# Altium integrated library FPGA Generic.IntLib: 1651 symbols (part 9 of 20)
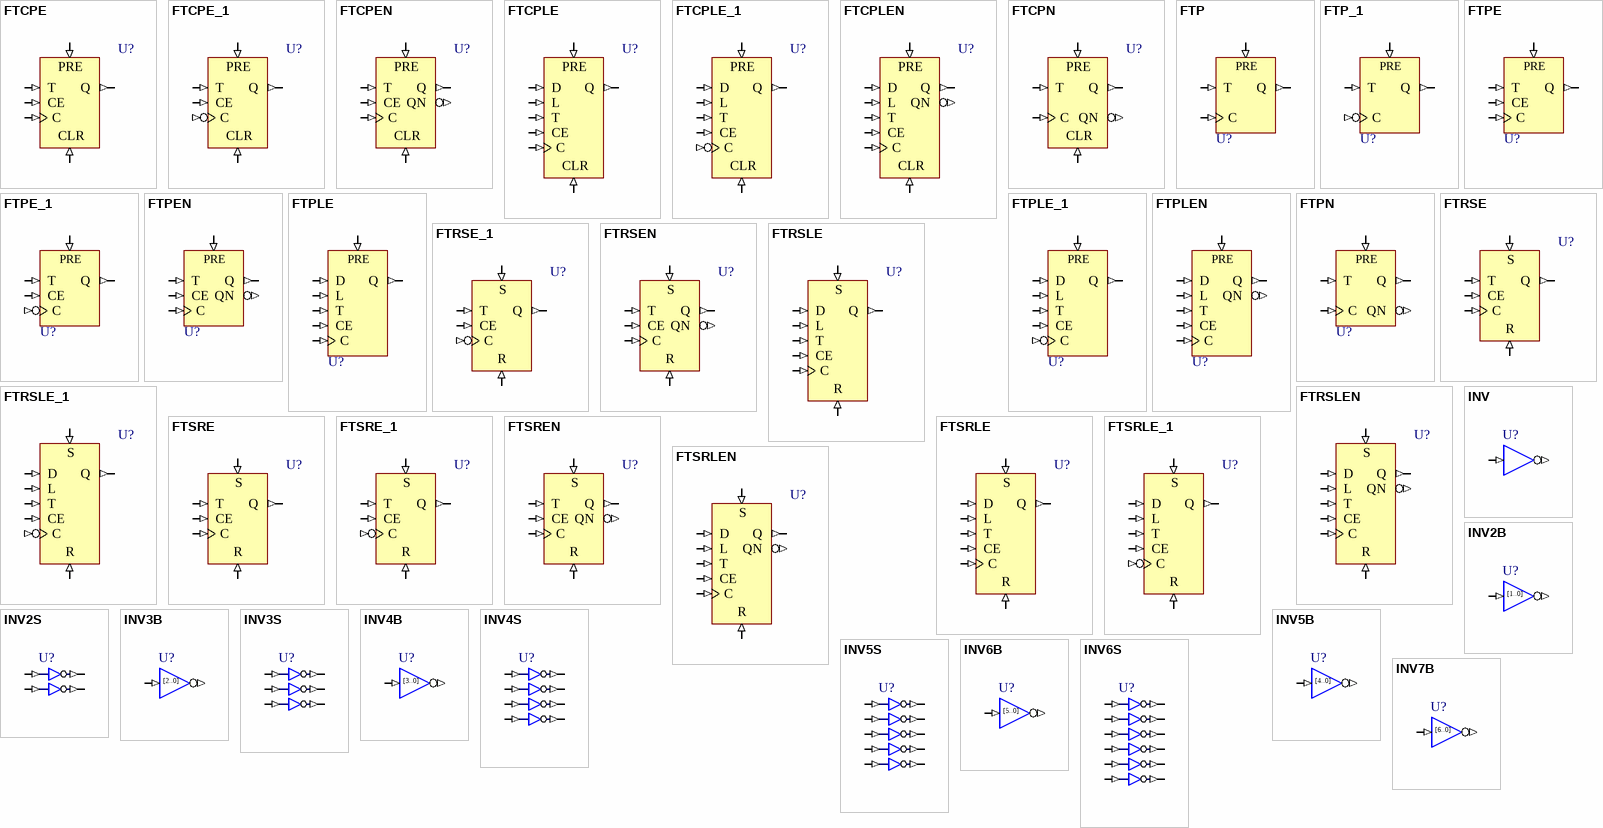
[diagram p51: symbols FTCPE to INV7B]

## INV7B
designator U?
7-Bit Inverter, Bus Version; FunctionalClass: Logic Primitive; SubClass: INV; PortSize: 7; ArchiveName: GENERIC; VHDLIB_SIM: GENERIC_LIB; Published: 29-Jan-2004; Publisher: Altium Limited; LastRevisionNo: 1.00.00; HelpURL: CR0118 FPGA Generic Library Guide.pdf#page=291; ComponentLink1URL: CR0136 FPGA Logic Primitive Resource Usage.pdf#page=72; ComponentLink1Description: Core &Resource Usage; PortStyle: Bus Version
pins: I[6..0] (in), O[6..0] (out)
text: [6..0]

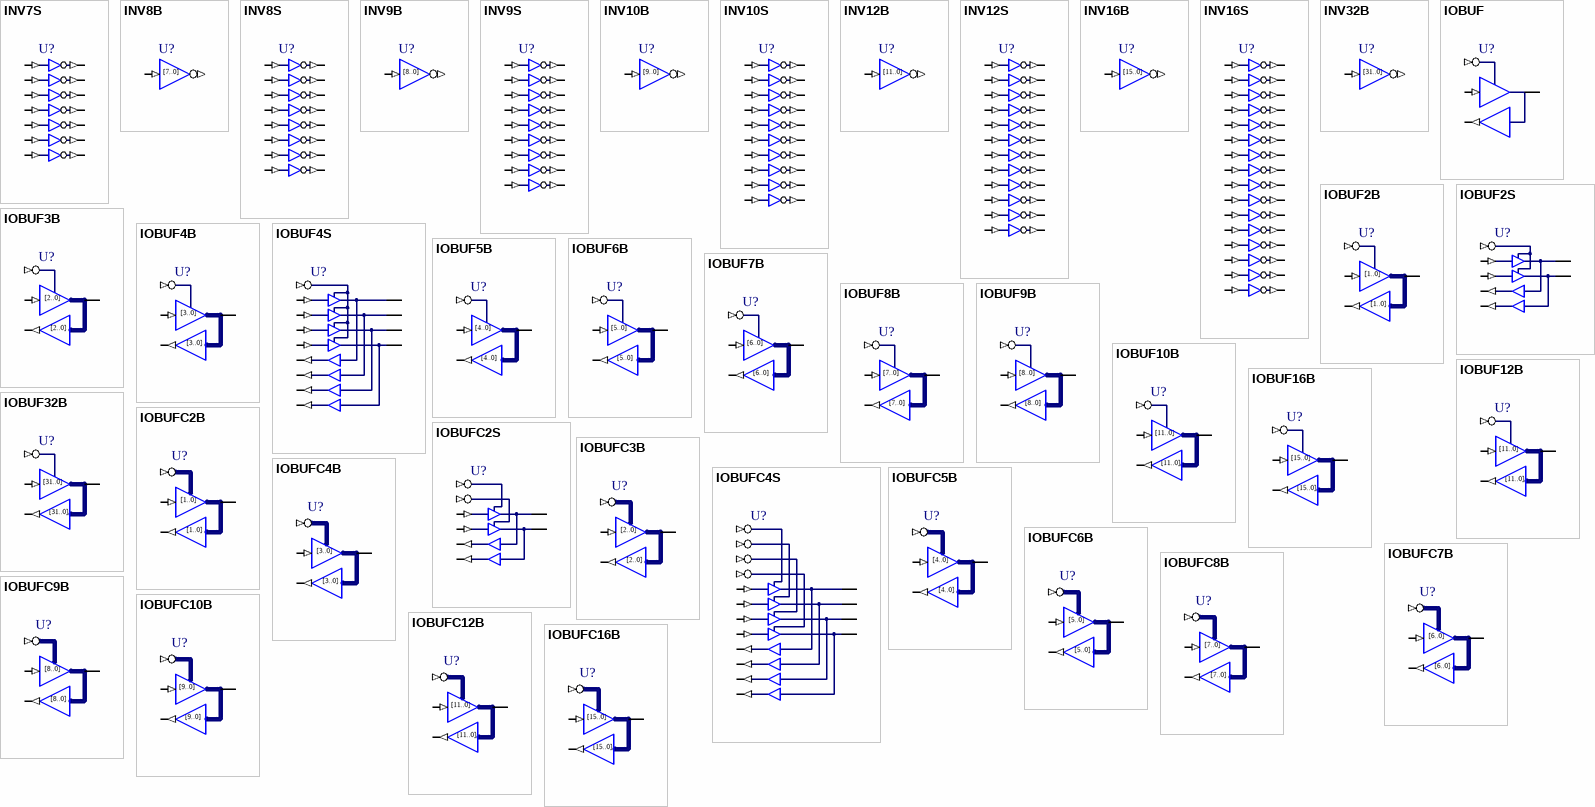
[diagram p17: symbols INV7S to IOBUFC16B]

## INV7S
designator U?
7-Bit Inverter, Single Pin Version; FunctionalClass: Logic Primitive; SubClass: INV; PortSize: 7; ArchiveName: GENERIC; VHDLIB_SIM: GENERIC_LIB; Published: 29-Jan-2004; Publisher: Altium Limited; LastRevisionNo: 1.00.00; HelpURL: CR0118 FPGA Generic Library Guide.pdf#page=291; ComponentLink1URL: CR0136 FPGA Logic Primitive Resource Usage.pdf#page=73; ComponentLink1Description: Core &Resource Usage; PortStyle: Single Pin Version
pins: I0 (in), I1 (in), I2 (in), I3 (in), I4 (in), I5 (in), I6 (in), O0 (out), O1 (out), O2 (out), O3 (out), O4 (out), O5 (out), O6 (out)

## INV8B
designator U?
8-Bit Inverter, Bus Version; XilinxEquivalent: INV8; FunctionalClass: Logic Primitive; SubClass: INV; PortSize: 8; ArchiveName: GENERIC; VHDLIB_SIM: GENERIC_LIB; Published: 29-Jan-2004; Publisher: Altium Limited; LastRevisionNo: 1.00.00; HelpURL: CR0118 FPGA Generic Library Guide.pdf#page=291; ComponentLink1URL: CR0136 FPGA Logic Primitive Resource Usage.pdf#page=74; ComponentLink1Description: Core &Resource Usage; PortStyle: Bus Version
pins: I[7..0] (in), O[7..0] (out)
text: [7..0]

## INV8S
designator U?
8-Bit Inverter, Single Pin Version; FunctionalClass: Logic Primitive; SubClass: INV; PortSize: 8; ArchiveName: GENERIC; VHDLIB_SIM: GENERIC_LIB; Published: 29-Jan-2004; Publisher: Altium Limited; LastRevisionNo: 1.00.00; HelpURL: CR0118 FPGA Generic Library Guide.pdf#page=291; ComponentLink1URL: CR0136 FPGA Logic Primitive Resource Usage.pdf#page=75; ComponentLink1Description: Core &Resource Usage; PortStyle: Single Pin Version
pins: I0 (in), I1 (in), I2 (in), I3 (in), I4 (in), I5 (in), I6 (in), I7 (in), O0 (out), O1 (out), O2 (out), O3 (out), O4 (out), O5 (out), O6 (out), O7 (out)

## INV9B
designator U?
9-Bit Inverter, Bus Version; FunctionalClass: Logic Primitive; SubClass: INV; PortSize: 9; ArchiveName: GENERIC; VHDLIB_SIM: GENERIC_LIB; Published: 29-Jan-2004; Publisher: Altium Limited; LastRevisionNo: 1.00.00; HelpURL: CR0118 FPGA Generic Library Guide.pdf#page=291; ComponentLink1URL: CR0136 FPGA Logic Primitive Resource Usage.pdf#page=76; ComponentLink1Description: Core &Resource Usage; PortStyle: Bus Version
pins: I[8..0] (in), O[8..0] (out)
text: [8..0]

## INV9S
designator U?
9-Bit Inverter, Single Pin Version; FunctionalClass: Logic Primitive; SubClass: INV; PortSize: 9; ArchiveName: GENERIC; VHDLIB_SIM: GENERIC_LIB; Published: 29-Jan-2004; Publisher: Altium Limited; LastRevisionNo: 1.00.00; HelpURL: CR0118 FPGA Generic Library Guide.pdf#page=291; ComponentLink1URL: CR0136 FPGA Logic Primitive Resource Usage.pdf#page=77; ComponentLink1Description: Core &Resource Usage; PortStyle: Single Pin Version
pins: I0 (in), I1 (in), I2 (in), I3 (in), I4 (in), I5 (in), I6 (in), I7 (in), I8 (in), O0 (out), O1 (out), O2 (out), O3 (out), O4 (out), O5 (out), O6 (out), O7 (out), O8 (out)

## INV10B
designator U?
10-Bit Inverter, Bus Version; FunctionalClass: Logic Primitive; SubClass: INV; PortSize: 10; ArchiveName: GENERIC; VHDLIB_SIM: GENERIC_LIB; Published: 29-Jan-2004; Publisher: Altium Limited; LastRevisionNo: 1.00.00; HelpURL: CR0118 FPGA Generic Library Guide.pdf#page=291; ComponentLink1URL: CR0136 FPGA Logic Primitive Resource Usage.pdf#page=78; ComponentLink1Description: Core &Resource Usage; PortStyle: Bus Version
pins: I[9..0] (in), O[9..0] (out)
text: [9..0]

## INV10S
designator U?
10-Bit Inverter, Single Pin Version; FunctionalClass: Logic Primitive; SubClass: INV; PortSize: 10; ArchiveName: GENERIC; VHDLIB_SIM: GENERIC_LIB; Published: 29-Jan-2004; Publisher: Altium Limited; LastRevisionNo: 1.00.00; HelpURL: CR0118 FPGA Generic Library Guide.pdf#page=291; ComponentLink1URL: CR0136 FPGA Logic Primitive Resource Usage.pdf#page=79; ComponentLink1Description: Core &Resource Usage; PortStyle: Single Pin Version
pins: I0 (in), I1 (in), I2 (in), I3 (in), I4 (in), I5 (in), I6 (in), I7 (in), I8 (in), I9 (in), O0 (out), O1 (out), O2 (out), O3 (out), O4 (out), O5 (out), O6 (out), O7 (out), O8 (out), O9 (out)

## INV12B
designator U?
12-Bit Inverter, Bus Version; FunctionalClass: Logic Primitive; SubClass: INV; PortSize: 12; ArchiveName: GENERIC; VHDLIB_SIM: GENERIC_LIB; Published: 29-Jan-2004; Publisher: Altium Limited; LastRevisionNo: 1.00.00; HelpURL: CR0118 FPGA Generic Library Guide.pdf#page=291; ComponentLink1URL: CR0136 FPGA Logic Primitive Resource Usage.pdf#page=80; ComponentLink1Description: Core &Resource Usage; PortStyle: Bus Version
pins: I[11..0] (in), O[11..0] (out)
text: [11..0]

## INV12S
designator U?
12-Bit Inverter, Single Pin Version; FunctionalClass: Logic Primitive; SubClass: INV; PortSize: 12; ArchiveName: GENERIC; VHDLIB_SIM: GENERIC_LIB; Published: 29-Jan-2004; Publisher: Altium Limited; LastRevisionNo: 1.00.00; HelpURL: CR0118 FPGA Generic Library Guide.pdf#page=291; ComponentLink1URL: CR0136 FPGA Logic Primitive Resource Usage.pdf#page=81; ComponentLink1Description: Core &Resource Usage; PortStyle: Single Pin Version
pins: I0 (in), I1 (in), I2 (in), I3 (in), I4 (in), I5 (in), I6 (in), I7 (in), I8 (in), I9 (in), I10 (in), I11 (in), O0 (out), O1 (out), O2 (out), O3 (out), O4 (out), O5 (out), O6 (out), O7 (out), O8 (out), O9 (out), O10 (out), O11 (out)

## INV16B
designator U?
16-Bit Inverter, Bus Version; XilinxEquivalent: INV16; FunctionalClass: Logic Primitive; SubClass: INV; PortSize: 16; ArchiveName: GENERIC; VHDLIB_SIM: GENERIC_LIB; Published: 29-Jan-2004; Publisher: Altium Limited; LastRevisionNo: 1.00.00; HelpURL: CR0118 FPGA Generic Library Guide.pdf#page=291; ComponentLink1URL: CR0136 FPGA Logic Primitive Resource Usage.pdf#page=82; ComponentLink1Description: Core &Resource Usage; PortStyle: Bus Version
pins: I[15..0] (in), O[15..0] (out)
text: [15..0]

## INV16S
designator U?
16-Bit Inverter, Single Pin Version; FunctionalClass: Logic Primitive; SubClass: INV; PortSize: 16; ArchiveName: GENERIC; VHDLIB_SIM: GENERIC_LIB; Published: 29-Jan-2004; Publisher: Altium Limited; LastRevisionNo: 1.00.00; HelpURL: CR0118 FPGA Generic Library Guide.pdf#page=291; ComponentLink1URL: CR0136 FPGA Logic Primitive Resource Usage.pdf#page=83; ComponentLink1Description: Core &Resource Usage; PortStyle: Single Pin Version
pins: I0 (in), I1 (in), I2 (in), I3 (in), I4 (in), I5 (in), I6 (in), I7 (in), I8 (in), I9 (in), I10 (in), I11 (in), I12 (in), I13 (in), I14 (in), I15 (in), O0 (out), O1 (out), O2 (out), O3 (out), O4 (out), O5 (out), O6 (out), O7 (out), O8 (out), O9 (out), O10 (out), O11 (out), O12 (out), O13 (out), O14 (out), O15 (out)

## INV32B
designator U?
32-Bit Inverter, Bus Version; FunctionalClass: Logic Primitive; SubClass: INV; PortSize: 32; ArchiveName: GENERIC; VHDLIB_SIM: GENERIC_LIB; Published: 29-Jan-2004; Publisher: Altium Limited; LastRevisionNo: 1.00.00; HelpURL: CR0118 FPGA Generic Library Guide.pdf#page=291; ComponentLink1URL: CR0136 FPGA Logic Primitive Resource Usage.pdf#page=84; ComponentLink1Description: Core &Resource Usage; PortStyle: Bus Version
pins: I[31..0] (in), O[31..0] (out)
text: [31..0]

## IOBUF
designator U?
Input/Output Buffer; XilinxEquivalent: IOBUF; Enable: Low; Control: Common Control T; ArchiveName: GENERIC; VHDLIB_SIM: GENERIC_LIB; Published: 29-Jan-2004; Publisher: Altium Limited; LastRevisionNo: 1.00.00; HelpURL: CR0118 FPGA Generic Library Guide.pdf#page=293; ComponentLink1URL: CR0125 FPGA Buffer Resource Usage.pdf#page=78; ComponentLink1Description: Core &Resource Usage; FunctionalClass: Buffer; SubClass: IOBUF
pins: I (in), IO (io), O (out), T (in)

## IOBUF2B
designator U?
2-Bit Input/Output Buffer, Bus Version; SubClass: IOBUF; Enable: Low; Control: Common Control T; PortSize: 2; ArchiveName: GENERIC; VHDLIB_SIM: GENERIC_LIB; Published: 29-Jan-2004; Publisher: Altium Limited; LastRevisionNo: 1.00.00; HelpURL: CR0118 FPGA Generic Library Guide.pdf#page=293; ComponentLink1URL: CR0125 FPGA Buffer Resource Usage.pdf#page=79; ComponentLink1Description: Core &Resource Usage; FunctionalClass: Buffer; PortStyle: Bus Version
pins: I[1..0] (in), IO[1..0] (io), O[1..0] (out), T (in)
text: [1..0]

## IOBUF2S
designator U?
2-Bit Input/Output Buffer, Single Pin Version; SubClass: IOBUF; Enable: Low; Control: Common Control T; PortSize: 2; ArchiveName: GENERIC; VHDLIB_SIM: GENERIC_LIB; Published: 29-Jan-2004; Publisher: Altium Limited; LastRevisionNo: 1.00.00; HelpURL: CR0118 FPGA Generic Library Guide.pdf#page=293; ComponentLink1URL: CR0125 FPGA Buffer Resource Usage.pdf#page=80; ComponentLink1Description: Core &Resource Usage; FunctionalClass: Buffer; PortStyle: Single Pin Version
pins: I0 (in), I1 (in), IO0 (io), IO1 (io), O0 (out), O1 (out), T (in)

## IOBUF3B
designator U?
3-Bit Input/Output Buffer, Bus Version; SubClass: IOBUF; Enable: Low; Control: Common Control T; PortSize: 3; ArchiveName: GENERIC; VHDLIB_SIM: GENERIC_LIB; Published: 29-Jan-2004; Publisher: Altium Limited; LastRevisionNo: 1.00.00; HelpURL: CR0118 FPGA Generic Library Guide.pdf#page=293; ComponentLink1URL: CR0125 FPGA Buffer Resource Usage.pdf#page=81; ComponentLink1Description: Core &Resource Usage; FunctionalClass: Buffer; PortStyle: Bus Version
pins: I[2..0] (in), IO[2..0] (io), O[2..0] (out), T (in)
text: [2..0]

## IOBUF4B
designator U?
4-Bit Input/Output Buffer, Bus Version; SubClass: IOBUF; Enable: Low; Control: Common Control T; PortSize: 4; ArchiveName: GENERIC; VHDLIB_SIM: GENERIC_LIB; Published: 29-Jan-2004; Publisher: Altium Limited; LastRevisionNo: 1.00.00; HelpURL: CR0118 FPGA Generic Library Guide.pdf#page=293; ComponentLink1URL: CR0125 FPGA Buffer Resource Usage.pdf#page=82; ComponentLink1Description: Core &Resource Usage; FunctionalClass: Buffer; PortStyle: Bus Version
pins: I[3..0] (in), IO[3..0] (io), O[3..0] (out), T (in)
text: [3..0]

## IOBUF4S
designator U?
4-Bit Input/Output Buffer, Single Pin Version; SubClass: IOBUF; Enable: Low; Control: Common Control T; PortSize: 4; ArchiveName: GENERIC; VHDLIB_SIM: GENERIC_LIB; Published: 29-Jan-2004; Publisher: Altium Limited; LastRevisionNo: 1.00.00; HelpURL: CR0118 FPGA Generic Library Guide.pdf#page=293; ComponentLink1URL: CR0125 FPGA Buffer Resource Usage.pdf#page=83; ComponentLink1Description: Core &Resource Usage; FunctionalClass: Buffer; PortStyle: Single Pin Version
pins: I0 (in), I1 (in), I2 (in), I3 (in), IO0 (io), IO1 (io), IO2 (io), IO3 (io), O0 (out), O1 (out), O2 (out), O3 (out), T (in)

## IOBUF5B
designator U?
5-Bit Input/Output Buffer, Bus Version; SubClass: IOBUF; Enable: Low; Control: Common Control T; PortSize: 5; ArchiveName: GENERIC; VHDLIB_SIM: GENERIC_LIB; Published: 29-Jan-2004; Publisher: Altium Limited; LastRevisionNo: 1.00.00; HelpURL: CR0118 FPGA Generic Library Guide.pdf#page=293; ComponentLink1URL: CR0125 FPGA Buffer Resource Usage.pdf#page=84; ComponentLink1Description: Core &Resource Usage; FunctionalClass: Buffer; PortStyle: Bus Version
pins: I[4..0] (in), IO[4..0] (io), O[4..0] (out), T (in)
text: [4..0]

## IOBUF6B
designator U?
6-Bit Input/Output Buffer, Bus Version; SubClass: IOBUF; Enable: Low; Control: Common Control T; PortSize: 6; ArchiveName: GENERIC; VHDLIB_SIM: GENERIC_LIB; Published: 29-Jan-2004; Publisher: Altium Limited; LastRevisionNo: 1.00.00; HelpURL: CR0118 FPGA Generic Library Guide.pdf#page=293; ComponentLink1URL: CR0125 FPGA Buffer Resource Usage.pdf#page=85; ComponentLink1Description: Core &Resource Usage; FunctionalClass: Buffer; PortStyle: Bus Version
pins: I[5..0] (in), IO[5..0] (io), O[5..0] (out), T (in)
text: [5..0]

## IOBUF7B
designator U?
7-Bit Input/Output Buffer, Bus Version; SubClass: IOBUF; Enable: Low; Control: Common Control T; PortSize: 7; ArchiveName: GENERIC; VHDLIB_SIM: GENERIC_LIB; Published: 29-Jan-2004; Publisher: Altium Limited; LastRevisionNo: 1.00.00; HelpURL: CR0118 FPGA Generic Library Guide.pdf#page=293; ComponentLink1URL: CR0125 FPGA Buffer Resource Usage.pdf#page=86; ComponentLink1Description: Core &Resource Usage; FunctionalClass: Buffer; PortStyle: Bus Version
pins: I[6..0] (in), IO[6..0] (io), O[6..0] (out), T (in)
text: [6..0]

## IOBUF8B
designator U?
8-Bit Input/Output Buffer, Bus Version; SubClass: IOBUF; Enable: Low; Control: Common Control T; PortSize: 8; ArchiveName: GENERIC; VHDLIB_SIM: GENERIC_LIB; Published: 29-Jan-2004; Publisher: Altium Limited; LastRevisionNo: 1.00.00; HelpURL: CR0118 FPGA Generic Library Guide.pdf#page=293; ComponentLink1URL: CR0125 FPGA Buffer Resource Usage.pdf#page=87; ComponentLink1Description: Core &Resource Usage; FunctionalClass: Buffer; PortStyle: Bus Version
pins: I[7..0] (in), IO[7..0] (io), O[7..0] (out), T (in)
text: [7..0]

## IOBUF9B
designator U?
9-Bit Input/Output Buffer, Bus Version; SubClass: IOBUF; Enable: Low; Control: Common Control T; PortSize: 9; ArchiveName: GENERIC; VHDLIB_SIM: GENERIC_LIB; Published: 29-Jan-2004; Publisher: Altium Limited; LastRevisionNo: 1.00.00; HelpURL: CR0118 FPGA Generic Library Guide.pdf#page=293; ComponentLink1URL: CR0125 FPGA Buffer Resource Usage.pdf#page=88; ComponentLink1Description: Core &Resource Usage; FunctionalClass: Buffer; PortStyle: Bus Version
pins: I[8..0] (in), IO[8..0] (io), O[8..0] (out), T (in)
text: [8..0]

## IOBUF10B
designator U?
10-Bit Input/Output Buffer, Bus Version; SubClass: IOBUF; Enable: Low; Control: Common Control T; PortSize: 10; ArchiveName: GENERIC; VHDLIB_SIM: GENERIC_LIB; Published: 29-Jan-2004; Publisher: Altium Limited; LastRevisionNo: 1.00.00; HelpURL: CR0118 FPGA Generic Library Guide.pdf#page=293; ComponentLink1URL: CR0125 FPGA Buffer Resource Usage.pdf#page=89; ComponentLink1Description: Core &Resource Usage; FunctionalClass: Buffer; PortStyle: Bus Version
pins: I[9..0] (in), IO[9..0] (io), O[9..0] (out), T (in)
text: [11..0]

## IOBUF12B
designator U?
12-Bit Input/Output Buffer, Bus Version; SubClass: IOBUF; Enable: Low; Control: Common Control T; PortSize: 12; ArchiveName: GENERIC; VHDLIB_SIM: GENERIC_LIB; Published: 29-Jan-2004; Publisher: Altium Limited; LastRevisionNo: 1.00.00; HelpURL: CR0118 FPGA Generic Library Guide.pdf#page=293; ComponentLink1URL: CR0125 FPGA Buffer Resource Usage.pdf#page=90; ComponentLink1Description: Core &Resource Usage; FunctionalClass: Buffer; PortStyle: Bus Version
pins: I[11..0] (in), IO[11..0] (io), O[11..0] (out), T (in)
text: [11..0]

## IOBUF16B
designator U?
16-Bit Input/Output Buffer, Bus Version; SubClass: IOBUF; Enable: Low; Control: Common Control T; PortSize: 16; ArchiveName: GENERIC; VHDLIB_SIM: GENERIC_LIB; Published: 29-Jan-2004; Publisher: Altium Limited; LastRevisionNo: 1.00.00; HelpURL: CR0118 FPGA Generic Library Guide.pdf#page=293; ComponentLink1URL: CR0125 FPGA Buffer Resource Usage.pdf#page=91; ComponentLink1Description: Core &Resource Usage; FunctionalClass: Buffer; PortStyle: Bus Version
pins: I[15..0] (in), IO[15..0] (io), O[15..0] (out), T (in)
text: [15..0]

## IOBUF32B
designator U?
32-Bit Input/Output Buffer, Bus Version; SubClass: IOBUF; Enable: Low; Control: Common Control T; PortSize: 32; ArchiveName: GENERIC; VHDLIB_SIM: GENERIC_LIB; Published: 29-Jan-2004; Publisher: Altium Limited; LastRevisionNo: 1.00.00; HelpURL: CR0118 FPGA Generic Library Guide.pdf#page=293; ComponentLink1URL: CR0125 FPGA Buffer Resource Usage.pdf#page=92; ComponentLink1Description: Core &Resource Usage; FunctionalClass: Buffer; PortStyle: Bus Version
pins: I[31..0] (in), IO[31..0] (io), O[31..0] (out), T (in)
text: [31..0]

## IOBUFC2B
designator U?
2-Bit Input/Output Buffer With Separated Control, Bus Version; SubClass: IOBUFC; Enable: Low; Control: Separate Control T; PortSize: 2; ArchiveName: GENERIC; VHDLIB_SIM: GENERIC_LIB; Published: 29-Jan-2004; Publisher: Altium Limited; LastRevisionNo: 1.00.00; HelpURL: CR0118 FPGA Generic Library Guide.pdf#page=295; ComponentLink1URL: CR0125 FPGA Buffer Resource Usage.pdf#page=93; ComponentLink1Description: Core &Resource Usage; FunctionalClass: Buffer; PortStyle: Bus Version
pins: I[1..0] (in), IO[1..0] (io), O[1..0] (out), T[1..0] (in)
text: [1..0]

## IOBUFC2S
designator U?
2-Bit Input/Output Buffer With Separated Control, Single Pin Version; SubClass: IOBUFC; Enable: Low; Control: Separate Control T; PortSize: 2; ArchiveName: GENERIC; VHDLIB_SIM: GENERIC_LIB; Published: 29-Jan-2004; Publisher: Altium Limited; LastRevisionNo: 1.00.00; HelpURL: CR0118 FPGA Generic Library Guide.pdf#page=295; ComponentLink1URL: CR0125 FPGA Buffer Resource Usage.pdf#page=94; ComponentLink1Description: Core &Resource Usage; FunctionalClass: Buffer; PortStyle: Single Pin Version
pins: I0 (in), I1 (in), IO0 (io), IO1 (io), O0 (out), O1 (out), T0 (in), T1 (in)

## IOBUFC3B
designator U?
3-Bit Input/Output Buffer With Separated Control, Bus Version; SubClass: IOBUFC; Enable: Low; Control: Separate Control T; PortSize: 3; ArchiveName: GENERIC; VHDLIB_SIM: GENERIC_LIB; Published: 29-Jan-2004; Publisher: Altium Limited; LastRevisionNo: 1.00.00; HelpURL: CR0118 FPGA Generic Library Guide.pdf#page=295; ComponentLink1URL: CR0125 FPGA Buffer Resource Usage.pdf#page=95; ComponentLink1Description: Core &Resource Usage; FunctionalClass: Buffer; PortStyle: Bus Version
pins: I[2..0] (in), IO[2..0] (io), O[2..0] (out), T[2..0] (in)
text: [2..0]

## IOBUFC4B
designator U?
4-Bit Input/Output Buffer With Separated Control, Bus Version; SubClass: IOBUFC; Enable: Low; Control: Separate Control T; PortSize: 4; ArchiveName: GENERIC; VHDLIB_SIM: GENERIC_LIB; Published: 29-Jan-2004; Publisher: Altium Limited; LastRevisionNo: 1.00.00; HelpURL: CR0118 FPGA Generic Library Guide.pdf#page=295; ComponentLink1URL: CR0125 FPGA Buffer Resource Usage.pdf#page=96; ComponentLink1Description: Core &Resource Usage; FunctionalClass: Buffer; PortStyle: Bus Version
pins: I[3..0] (in), IO[3..0] (io), O[3..0] (out), T[3..0] (in)
text: [3..0]

## IOBUFC4S
designator U?
4-Bit Input/Output Buffer With Separated Control, Single Pin Version; SubClass: IOBUFC; Enable: Low; Control: Separate Control T; PortSize: 4; ArchiveName: GENERIC; VHDLIB_SIM: GENERIC_LIB; Published: 29-Jan-2004; Publisher: Altium Limited; LastRevisionNo: 1.00.00; HelpURL: CR0118 FPGA Generic Library Guide.pdf#page=295; ComponentLink1URL: CR0125 FPGA Buffer Resource Usage.pdf#page=97; ComponentLink1Description: Core &Resource Usage; FunctionalClass: Buffer; PortStyle: Single Pin Version
pins: I0 (in), I1 (in), I2 (in), I3 (in), IO0 (io), IO1 (io), IO2 (io), IO3 (io), O0 (out), O1 (out), O2 (out), O3 (out), T0 (in), T1 (in), T2 (in), T3 (in)

## IOBUFC5B
designator U?
5-Bit Input/Output Buffer With Separated Control, Bus Version; SubClass: IOBUFC; Enable: Low; Control: Separate Control T; PortSize: 5; ArchiveName: GENERIC; VHDLIB_SIM: GENERIC_LIB; Published: 29-Jan-2004; Publisher: Altium Limited; LastRevisionNo: 1.00.00; HelpURL: CR0118 FPGA Generic Library Guide.pdf#page=295; ComponentLink1URL: CR0125 FPGA Buffer Resource Usage.pdf#page=98; ComponentLink1Description: Core &Resource Usage; FunctionalClass: Buffer; PortStyle: Bus Version
pins: I[4..0] (in), IO[4..0] (io), O[4..0] (out), T[4..0] (in)
text: [4..0]

## IOBUFC6B
designator U?
6-Bit Input/Output Buffer With Separated Control, Bus Version; SubClass: IOBUFC; Enable: Low; Control: Separate Control T; PortSize: 6; ArchiveName: GENERIC; VHDLIB_SIM: GENERIC_LIB; Published: 29-Jan-2004; Publisher: Altium Limited; LastRevisionNo: 1.00.00; HelpURL: CR0118 FPGA Generic Library Guide.pdf#page=295; ComponentLink1URL: CR0125 FPGA Buffer Resource Usage.pdf#page=99; ComponentLink1Description: Core &Resource Usage; FunctionalClass: Buffer; PortStyle: Bus Version
pins: I[5..0] (in), IO[5..0] (io), O[5..0] (out), T[5..0] (in)
text: [5..0]

## IOBUFC7B
designator U?
7-Bit Input/Output Buffer With Separated Control, Bus Version; SubClass: IOBUFC; Enable: Low; Control: Separate Control T; PortSize: 7; ArchiveName: GENERIC; VHDLIB_SIM: GENERIC_LIB; Published: 29-Jan-2004; Publisher: Altium Limited; LastRevisionNo: 1.00.00; HelpURL: CR0118 FPGA Generic Library Guide.pdf#page=295; ComponentLink1URL: CR0125 FPGA Buffer Resource Usage.pdf#page=100; ComponentLink1Description: Core &Resource Usage; FunctionalClass: Buffer; PortStyle: Bus Version
pins: I[6..0] (in), IO[6..0] (io), O[6..0] (out), T[6..0] (in)
text: [6..0]

## IOBUFC8B
designator U?
8-Bit Input/Output Buffer With Separated Control, Bus Version; SubClass: IOBUFC; Enable: Low; Control: Separate Control T; PortSize: 8; ArchiveName: GENERIC; VHDLIB_SIM: GENERIC_LIB; Published: 29-Jan-2004; Publisher: Altium Limited; LastRevisionNo: 1.00.00; HelpURL: CR0118 FPGA Generic Library Guide.pdf#page=295; ComponentLink1URL: CR0125 FPGA Buffer Resource Usage.pdf#page=101; ComponentLink1Description: Core &Resource Usage; FunctionalClass: Buffer; PortStyle: Bus Version
pins: I[7..0] (in), IO[7..0] (io), O[7..0] (out), T[7..0] (in)
text: [7..0]

## IOBUFC9B
designator U?
9-Bit Input/Output Buffer With Separated Control, Bus Version; SubClass: IOBUFC; Enable: Low; Control: Separate Control T; PortSize: 9; ArchiveName: GENERIC; VHDLIB_SIM: GENERIC_LIB; Published: 29-Jan-2004; Publisher: Altium Limited; LastRevisionNo: 1.00.00; HelpURL: CR0118 FPGA Generic Library Guide.pdf#page=295; ComponentLink1URL: CR0125 FPGA Buffer Resource Usage.pdf#page=102; ComponentLink1Description: Core &Resource Usage; FunctionalClass: Buffer; PortStyle: Bus Version
pins: I[8..0] (in), IO[8..0] (io), O[8..0] (out), T[8..0] (in)
text: [8..0]

## IOBUFC10B
designator U?
10-Bit Input/Output Buffer With Separated Control, Bus Version; SubClass: IOBUFC; Enable: Low; Control: Separate Control T; PortSize: 10; ArchiveName: GENERIC; VHDLIB_SIM: GENERIC_LIB; Published: 29-Jan-2004; Publisher: Altium Limited; LastRevisionNo: 1.00.00; HelpURL: CR0118 FPGA Generic Library Guide.pdf#page=295; ComponentLink1URL: CR0125 FPGA Buffer Resource Usage.pdf#page=103; ComponentLink1Description: Core &Resource Usage; FunctionalClass: Buffer; PortStyle: Bus Version
pins: I[9..0] (in), IO[9..0] (io), O[9..0] (out), T[9..0] (in)
text: [9..0]

## IOBUFC12B
designator U?
12-Bit Input/Output Buffer With Separated Control, Bus Version; SubClass: IOBUFC; Enable: Low; Control: Separate Control T; PortSize: 12; ArchiveName: GENERIC; VHDLIB_SIM: GENERIC_LIB; Published: 29-Jan-2004; Publisher: Altium Limited; LastRevisionNo: 1.00.00; HelpURL: CR0118 FPGA Generic Library Guide.pdf#page=295; ComponentLink1URL: CR0125 FPGA Buffer Resource Usage.pdf#page=104; ComponentLink1Description: Core &Resource Usage; FunctionalClass: Buffer; PortStyle: Bus Version
pins: I[11..0] (in), IO[11..0] (io), O[11..0] (out), T[11..0] (in)
text: [11..0]

## IOBUFC16B
designator U?
16-Bit Input/Output Buffer With Separated Control, Bus Version; SubClass: IOBUFC; Enable: Low; Control: Separate Control T; PortSize: 16; ArchiveName: GENERIC; VHDLIB_SIM: GENERIC_LIB; Published: 29-Jan-2004; Publisher: Altium Limited; LastRevisionNo: 1.00.00; HelpURL: CR0118 FPGA Generic Library Guide.pdf#page=295; ComponentLink1URL: CR0125 FPGA Buffer Resource Usage.pdf#page=105; ComponentLink1Description: Core &Resource Usage; FunctionalClass: Buffer; PortStyle: Bus Version
pins: I[15..0] (in), IO[15..0] (io), O[15..0] (out), T[15..0] (in)
text: [15..0]

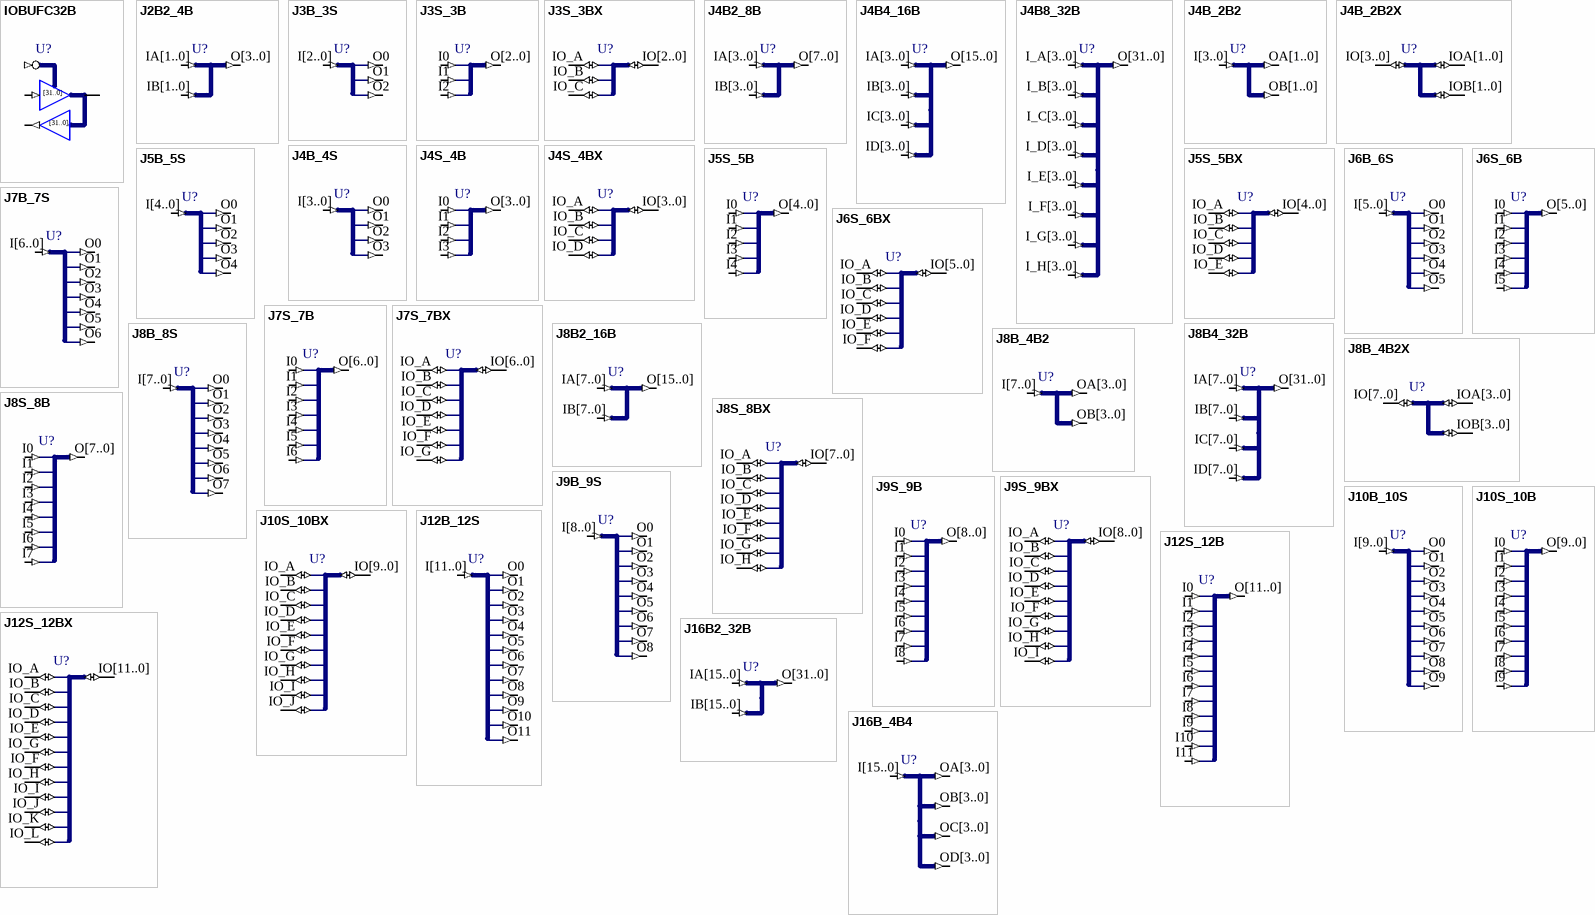
[diagram p18: symbols IOBUFC32B to J16B_4B4]

## IOBUFC32B
designator U?
32-Bit Input/Output Buffer With Separated Control, Bus Version; SubClass: IOBUFC; Enable: Low; Control: Separate Control T; PortSize: 32; ArchiveName: GENERIC; VHDLIB_SIM: GENERIC_LIB; Published: 29-Jan-2004; Publisher: Altium Limited; LastRevisionNo: 1.00.00; HelpURL: CR0118 FPGA Generic Library Guide.pdf#page=295; ComponentLink1URL: CR0125 FPGA Buffer Resource Usage.pdf#page=106; ComponentLink1Description: Core &Resource Usage; FunctionalClass: Buffer; PortStyle: Bus Version
pins: I[31..0] (in), IO[31..0] (io), O[31..0] (out), T[31..0] (in)
text: [31..0]

## J2B2_4B
designator U?
2 x 2-Bit input bus to 1 x 4-bit output bus; FunctionalClass: Bus Joiner; PortSize: 2; ArchiveName: GENERIC; VHDLIB_SIM: GENERIC_LIB; Published: 29-Jan-2004; Publisher: Altium Limited; LastRevisionNo: 1.00.00; HelpURL: CR0118 FPGA Generic Library Guide.pdf#page=302; ComponentLink1URL: CR0126 FPGA Bus Joiner Resource Usage.pdf#page=2; ComponentLink1Description: Core &Resource Usage
pins: IA[1..0] (in), IB[1..0] (in), O[3..0] (out)

## J3B_3S
designator U?
3-Bit input bus to 3 Single pin outputs; FunctionalClass: Bus Joiner; PortSize: 3; ArchiveName: GENERIC; VHDLIB_SIM: GENERIC_LIB; Published: 29-Jan-2004; Publisher: Altium Limited; LastRevisionNo: 1.00.00; HelpURL: CR0118 FPGA Generic Library Guide.pdf#page=304; ComponentLink1URL: CR0126 FPGA Bus Joiner Resource Usage.pdf#page=3; ComponentLink1Description: Core &Resource Usage
pins: I[2..0] (in), O0 (out), O1 (out), O2 (out)

## J3S_3B
designator U?
3 Single pin inputs to single 3-Bit output bus; FunctionalClass: Bus Joiner; PortSize: 3; ArchiveName: GENERIC; VHDLIB_SIM: GENERIC_LIB; Published: 29-Jan-2004; Publisher: Altium Limited; LastRevisionNo: 1.00.00; HelpURL: CR0118 FPGA Generic Library Guide.pdf#page=306; ComponentLink1URL: CR0126 FPGA Bus Joiner Resource Usage.pdf#page=4; ComponentLink1Description: Core &Resource Usage
pins: I0 (in), I1 (in), I2 (in), O[2..0] (out)

## J3S_3BX
designator U?
3 Single pin IO to single 3-Bit IO bus; FunctionalClass: Bus Joiner; PortSize: 3; ArchiveName: GENERIC; VHDLIB_SIM: GENERIC_LIB; Published: 29-Jan-2004; Publisher: Altium Limited; LastRevisionNo: 1.00.00; HelpURL: CR0118 FPGA Generic Library Guide.pdf#page=308; ComponentLink1Description: Core &Resource Usage; ComponentLink1URL: CR0126 FPGA Bus Joiner Resource Usage.pdf#page=5
pins: IO[2..0] (io), IO_A (io), IO_B (io), IO_C (io)

## J4B2_8B
designator U?
2 x 4-Bit input bus to 1 x 8-bit output bus; FunctionalClass: Bus Joiner; PortSize: 4; ArchiveName: GENERIC; VHDLIB_SIM: GENERIC_LIB; Published: 29-Jan-2004; Publisher: Altium Limited; LastRevisionNo: 1.00.00; HelpURL: CR0118 FPGA Generic Library Guide.pdf#page=302; ComponentLink1URL: CR0126 FPGA Bus Joiner Resource Usage.pdf#page=6; ComponentLink1Description: Core &Resource Usage
pins: IA[3..0] (in), IB[3..0] (in), O[7..0] (out)

## J4B4_16B
designator U?
4 x 4-Bit input bus to 1 x 16-bit output bus; FunctionalClass: Bus Joiner; PortSize: 4; ArchiveName: GENERIC; VHDLIB_SIM: GENERIC_LIB; Published: 29-Jan-2004; Publisher: Altium Limited; LastRevisionNo: 1.00.00; HelpURL: CR0118 FPGA Generic Library Guide.pdf#page=302; ComponentLink1URL: CR0126 FPGA Bus Joiner Resource Usage.pdf#page=7; ComponentLink1Description: Core &Resource Usage
pins: IA[3..0] (in), IB[3..0] (in), IC[3..0] (in), ID[3..0] (in), O[15..0] (out)

## J4B8_32B
designator U?
8 x 4-Bit input bus to 1 x 32-bit output bus; FunctionalClass: Bus Joiner; PortSize: 4; ArchiveName: GENERIC; VHDLIB_SIM: GENERIC_LIB; Published: 29-Jan-2004; Publisher: Altium Limited; LastRevisionNo: 1.00.00; HelpURL: CR0118 FPGA Generic Library Guide.pdf#page=302; ComponentLink1URL: CR0126 FPGA Bus Joiner Resource Usage.pdf#page=8; ComponentLink1Description: Core &Resource Usage
pins: I_A[3..0] (in), I_B[3..0] (in), I_C[3..0] (in), I_D[3..0] (in), I_E[3..0] (in), I_F[3..0] (in), I_G[3..0] (in), I_H[3..0] (in), O[31..0] (out)

## J4B_2B2
designator U?
1 x 4-bit input bus to 2 x 2-Bit output bus; FunctionalClass: Bus Joiner; PortSize: 4; ArchiveName: GENERIC; VHDLIB_SIM: GENERIC_LIB; Published: 29-Jan-2004; Publisher: Altium Limited; LastRevisionNo: 1.00.00; HelpURL: CR0118 FPGA Generic Library Guide.pdf#page=298; ComponentLink1URL: CR0126 FPGA Bus Joiner Resource Usage.pdf#page=9; ComponentLink1Description: Core &Resource Usage
pins: I[3..0] (in), OA[1..0] (out), OB[1..0] (out)

## J4B_2B2X
designator U?
1 x 4-bit IO bus to 2 x 2-Bit IO bus; FunctionalClass: Bus Joiner; PortSize: 4; ArchiveName: GENERIC; VHDLIB_SIM: GENERIC_LIB; Published: 29-Jan-2004; Publisher: Altium Limited; LastRevisionNo: 1.00.00; HelpURL: CR0118 FPGA Generic Library Guide.pdf#page=300; ComponentLink1URL: CR0126 FPGA Bus Joiner Resource Usage.pdf#page=10; ComponentLink1Description: Core &Resource Usage
pins: IO[3..0] (io), IOA[1..0] (io), IOB[1..0] (io)

## J4B_4S
designator U?
4-Bit input bus to 4 Single pin outputs; FunctionalClass: Bus Joiner; PortSize: 4; ArchiveName: GENERIC; VHDLIB_SIM: GENERIC_LIB; Published: 29-Jan-2004; Publisher: Altium Limited; LastRevisionNo: 1.00.00; HelpURL: CR0118 FPGA Generic Library Guide.pdf#page=304; ComponentLink1URL: CR0126 FPGA Bus Joiner Resource Usage.pdf#page=11; ComponentLink1Description: Core &Resource Usage
pins: I[3..0] (in), O0 (out), O1 (out), O2 (out), O3 (out)

## J4S_4B
designator U?
4 Single pin inputs to single 4-Bit output bus; FunctionalClass: Bus Joiner; PortSize: 4; ArchiveName: GENERIC; VHDLIB_SIM: GENERIC_LIB; Published: 29-Jan-2004; Publisher: Altium Limited; LastRevisionNo: 1.00.00; HelpURL: CR0118 FPGA Generic Library Guide.pdf#page=306; ComponentLink1URL: CR0126 FPGA Bus Joiner Resource Usage.pdf#page=12; ComponentLink1Description: Core &Resource Usage
pins: I0 (in), I1 (in), I2 (in), I3 (in), O[3..0] (out)

## J4S_4BX
designator U?
4 Single pin IO to single 4-Bit IO bus; FunctionalClass: Bus Joiner; PortSize: 4; ArchiveName: GENERIC; VHDLIB_SIM: GENERIC_LIB; Published: 29-Jan-2004; Publisher: Altium Limited; LastRevisionNo: 1.00.00; HelpURL: CR0118 FPGA Generic Library Guide.pdf#page=308; ComponentLink1Description: Core &Resource Usage; ComponentLink1URL: CR0126 FPGA Bus Joiner Resource Usage.pdf#page=13
pins: IO[3..0] (io), IO_A (io), IO_B (io), IO_C (io), IO_D (io)

## J5B_5S
designator U?
5-Bit input bus to 5 Single pin outputs; FunctionalClass: Bus Joiner; PortSize: 5; ArchiveName: GENERIC; VHDLIB_SIM: GENERIC_LIB; Published: 29-Jan-2004; Publisher: Altium Limited; LastRevisionNo: 1.00.00; HelpURL: CR0118 FPGA Generic Library Guide.pdf#page=304; ComponentLink1URL: CR0126 FPGA Bus Joiner Resource Usage.pdf#page=14; ComponentLink1Description: Core &Resource Usage
pins: I[4..0] (in), O0 (out), O1 (out), O2 (out), O3 (out), O4 (out)

## J5S_5B
designator U?
5 Single pin inputs to single 5-Bit output bus; FunctionalClass: Bus Joiner; PortSize: 5; ArchiveName: GENERIC; VHDLIB_SIM: GENERIC_LIB; Published: 29-Jan-2004; Publisher: Altium Limited; LastRevisionNo: 1.00.00; HelpURL: CR0118 FPGA Generic Library Guide.pdf#page=306; ComponentLink1URL: CR0126 FPGA Bus Joiner Resource Usage.pdf#page=15; ComponentLink1Description: Core &Resource Usage
pins: I0 (in), I1 (in), I2 (in), I3 (in), I4 (in), O[4..0] (out)

## J5S_5BX
designator U?
5 Single pin IO to single 5-Bit IO bus; FunctionalClass: Bus Joiner; PortSize: 5; ArchiveName: GENERIC; VHDLIB_SIM: GENERIC_LIB; Published: 29-Jan-2004; Publisher: Altium Limited; LastRevisionNo: 1.00.00; HelpURL: CR0118 FPGA Generic Library Guide.pdf#page=308; ComponentLink1Description: Core &Resource Usage; ComponentLink1URL: CR0126 FPGA Bus Joiner Resource Usage.pdf#page=16
pins: IO[4..0] (io), IO_A (io), IO_B (io), IO_C (io), IO_D (io), IO_E (io)

## J6B_6S
designator U?
6-Bit input bus to 6 Single pin outputs; FunctionalClass: Bus Joiner; PortSize: 6; ArchiveName: GENERIC; VHDLIB_SIM: GENERIC_LIB; Published: 29-Jan-2004; Publisher: Altium Limited; LastRevisionNo: 1.00.00; HelpURL: CR0118 FPGA Generic Library Guide.pdf#page=304; ComponentLink1URL: CR0126 FPGA Bus Joiner Resource Usage.pdf#page=17; ComponentLink1Description: Core &Resource Usage
pins: I[5..0] (in), O0 (out), O1 (out), O2 (out), O3 (out), O4 (out), O5 (out)

## J6S_6B
designator U?
6 Single pin inputs to single 6-Bit output bus; FunctionalClass: Bus Joiner; PortSize: 6; ArchiveName: GENERIC; VHDLIB_SIM: GENERIC_LIB; Published: 29-Jan-2004; Publisher: Altium Limited; LastRevisionNo: 1.00.00; HelpURL: CR0118 FPGA Generic Library Guide.pdf#page=306; ComponentLink1URL: CR0126 FPGA Bus Joiner Resource Usage.pdf#page=18; ComponentLink1Description: Core &Resource Usage
pins: I0 (in), I1 (in), I2 (in), I3 (in), I4 (in), I5 (in), O[5..0] (out)

## J6S_6BX
designator U?
6 Single pin IO to single 6-Bit IO bus; FunctionalClass: Bus Joiner; PortSize: 6; ArchiveName: GENERIC; VHDLIB_SIM: GENERIC_LIB; Published: 29-Jan-2004; Publisher: Altium Limited; LastRevisionNo: 1.00.00; HelpURL: CR0118 FPGA Generic Library Guide.pdf#page=308; ComponentLink1Description: Core &Resource Usage; ComponentLink1URL: CR0126 FPGA Bus Joiner Resource Usage.pdf#page=19
pins: IO[5..0] (io), IO_A (io), IO_B (io), IO_C (io), IO_D (io), IO_E (io), IO_F (io)

## J7B_7S
designator U?
7-Bit input bus to 7 Single pin outputs; FunctionalClass: Bus Joiner; PortSize: 7; ArchiveName: GENERIC; VHDLIB_SIM: GENERIC_LIB; Published: 29-Jan-2004; Publisher: Altium Limited; LastRevisionNo: 1.00.00; HelpURL: CR0118 FPGA Generic Library Guide.pdf#page=304; ComponentLink1URL: CR0126 FPGA Bus Joiner Resource Usage.pdf#page=20; ComponentLink1Description: Core &Resource Usage
pins: I[6..0] (in), O0 (out), O1 (out), O2 (out), O3 (out), O4 (out), O5 (out), O6 (out)

## J7S_7B
designator U?
7 Single pin inputs to single 7-Bit output bus; FunctionalClass: Bus Joiner; PortSize: 7; ArchiveName: GENERIC; VHDLIB_SIM: GENERIC_LIB; Published: 29-Jan-2004; Publisher: Altium Limited; LastRevisionNo: 1.00.00; HelpURL: CR0118 FPGA Generic Library Guide.pdf#page=306; ComponentLink1URL: CR0126 FPGA Bus Joiner Resource Usage.pdf#page=21; ComponentLink1Description: Core &Resource Usage
pins: I0 (in), I1 (in), I2 (in), I3 (in), I4 (in), I5 (in), I6 (in), O[6..0] (out)

## J7S_7BX
designator U?
7 Single pin IO to single 7-Bit IO bus; FunctionalClass: Bus Joiner; PortSize: 7; ArchiveName: GENERIC; VHDLIB_SIM: GENERIC_LIB; Published: 29-Jan-2004; Publisher: Altium Limited; LastRevisionNo: 1.00.00; HelpURL: CR0118 FPGA Generic Library Guide.pdf#page=308; ComponentLink1Description: Core &Resource Usage; ComponentLink1URL: CR0126 FPGA Bus Joiner Resource Usage.pdf#page=22
pins: IO[6..0] (io), IO_A (io), IO_B (io), IO_C (io), IO_D (io), IO_E (io), IO_F (io), IO_G (io)

## J8B2_16B
designator U?
2 x 8-Bit input bus to 1 x 16-bit output bus; FunctionalClass: Bus Joiner; PortSize: 8; ArchiveName: GENERIC; VHDLIB_SIM: GENERIC_LIB; Published: 29-Jan-2004; Publisher: Altium Limited; LastRevisionNo: 1.00.00; HelpURL: CR0118 FPGA Generic Library Guide.pdf#page=302; ComponentLink1URL: CR0126 FPGA Bus Joiner Resource Usage.pdf#page=23; ComponentLink1Description: Core &Resource Usage
pins: IA[7..0] (in), IB[7..0] (in), O[15..0] (out)

## J8B4_32B
designator U?
4 x 8-Bit input bus to 1 x 32-bit output bus; FunctionalClass: Bus Joiner; PortSize: 8; ArchiveName: GENERIC; VHDLIB_SIM: GENERIC_LIB; Published: 29-Jan-2004; Publisher: Altium Limited; LastRevisionNo: 1.00.00; HelpURL: CR0118 FPGA Generic Library Guide.pdf#page=302; ComponentLink1URL: CR0126 FPGA Bus Joiner Resource Usage.pdf#page=24; ComponentLink1Description: Core &Resource Usage
pins: IA[7..0] (in), IB[7..0] (in), IC[7..0] (in), ID[7..0] (in), O[31..0] (out)

## J8B_4B2
designator U?
1 x 8-bit input bus to 2 x 4-Bit output bus; FunctionalClass: Bus Joiner; PortSize: 8; ArchiveName: GENERIC; VHDLIB_SIM: GENERIC_LIB; Published: 29-Jan-2004; Publisher: Altium Limited; LastRevisionNo: 1.00.00; HelpURL: CR0118 FPGA Generic Library Guide.pdf#page=298; ComponentLink1URL: CR0126 FPGA Bus Joiner Resource Usage.pdf#page=25; ComponentLink1Description: Core &Resource Usage
pins: I[7..0] (in), OA[3..0] (out), OB[3..0] (out)

## J8B_4B2X
designator U?
1 x 8-bit IO bus to 2 x 4-Bit IO bus; FunctionalClass: Bus Joiner; PortSize: 8; ArchiveName: GENERIC; VHDLIB_SIM: GENERIC_LIB; Published: 29-Jan-2004; Publisher: Altium Limited; LastRevisionNo: 1.00.00; HelpURL: CR0118 FPGA Generic Library Guide.pdf#page=300; ComponentLink1URL: CR0126 FPGA Bus Joiner Resource Usage.pdf#page=26; ComponentLink1Description: Core &Resource Usage
pins: IO[7..0] (io), IOA[3..0] (io), IOB[3..0] (io)

## J8B_8S
designator U?
8-Bit input bus to 8 single pin outputs; FunctionalClass: Bus Joiner; PortSize: 8; ArchiveName: GENERIC; VHDLIB_SIM: GENERIC_LIB; Published: 29-Jan-2004; Publisher: Altium Limited; LastRevisionNo: 1.00.00; HelpURL: CR0118 FPGA Generic Library Guide.pdf#page=304; ComponentLink1URL: CR0126 FPGA Bus Joiner Resource Usage.pdf#page=27; ComponentLink1Description: Core &Resource Usage
pins: I[7..0] (in), O0 (out), O1 (out), O2 (out), O3 (out), O4 (out), O5 (out), O6 (out), O7 (out)

## J8S_8B
designator U?
8 Single pin inputs to single 8-Bit output bus; FunctionalClass: Bus Joiner; PortSize: 8; ArchiveName: GENERIC; VHDLIB_SIM: GENERIC_LIB; Published: 29-Jan-2004; Publisher: Altium Limited; LastRevisionNo: 1.00.00; HelpURL: CR0118 FPGA Generic Library Guide.pdf#page=306; ComponentLink1URL: CR0126 FPGA Bus Joiner Resource Usage.pdf#page=28; ComponentLink1Description: Core &Resource Usage
pins: I0 (in), I1 (in), I2 (in), I3 (in), I4 (in), I5 (in), I6 (in), I7 (in), O[7..0] (out)

## J8S_8BX
designator U?
8 Single pin IO to single 8-Bit IO bus; FunctionalClass: Bus Joiner; PortSize: 8; ArchiveName: GENERIC; VHDLIB_SIM: GENERIC_LIB; Published: 29-Jan-2004; Publisher: Altium Limited; LastRevisionNo: 1.00.00; HelpURL: CR0118 FPGA Generic Library Guide.pdf#page=308; ComponentLink1Description: Core &Resource Usage; ComponentLink1URL: CR0126 FPGA Bus Joiner Resource Usage.pdf#page=29
pins: IO[7..0] (io), IO_A (io), IO_B (io), IO_C (io), IO_D (io), IO_E (io), IO_F (io), IO_G (io), IO_H (io)

## J9B_9S
designator U?
9-Bit input bus to 9 Single pin outputs; FunctionalClass: Bus Joiner; PortSize: 9; ArchiveName: GENERIC; VHDLIB_SIM: GENERIC_LIB; Published: 29-Jan-2004; Publisher: Altium Limited; LastRevisionNo: 1.00.00; HelpURL: CR0118 FPGA Generic Library Guide.pdf#page=304; ComponentLink1URL: CR0126 FPGA Bus Joiner Resource Usage.pdf#page=30; ComponentLink1Description: Core &Resource Usage
pins: I[8..0] (in), O0 (out), O1 (out), O2 (out), O3 (out), O4 (out), O5 (out), O6 (out), O7 (out), O8 (out)

## J9S_9B
designator U?
9 Single pin inputs to single 9-Bit output bus; FunctionalClass: Bus Joiner; PortSize: 9; ArchiveName: GENERIC; VHDLIB_SIM: GENERIC_LIB; Published: 29-Jan-2004; Publisher: Altium Limited; LastRevisionNo: 1.00.00; HelpURL: CR0118 FPGA Generic Library Guide.pdf#page=306; ComponentLink1URL: CR0126 FPGA Bus Joiner Resource Usage.pdf#page=31; ComponentLink1Description: Core &Resource Usage
pins: I0 (in), I1 (in), I2 (in), I3 (in), I4 (in), I5 (in), I6 (in), I7 (in), I8 (in), O[8..0] (out)

## J9S_9BX
designator U?
9 Single pin IO to single 9-Bit IO bus; FunctionalClass: Bus Joiner; PortSize: 9; ArchiveName: GENERIC; VHDLIB_SIM: GENERIC_LIB; Published: 29-Jan-2004; Publisher: Altium Limited; LastRevisionNo: 1.00.00; HelpURL: CR0118 FPGA Generic Library Guide.pdf#page=308; ComponentLink1Description: Core &Resource Usage; ComponentLink1URL: CR0126 FPGA Bus Joiner Resource Usage.pdf#page=32
pins: IO[8..0] (io), IO_A (io), IO_B (io), IO_C (io), IO_D (io), IO_E (io), IO_F (io), IO_G (io), IO_H (io), IO_I (io)

## J10B_10S
designator U?
10-Bit input bus to 10 Single pin outputs; FunctionalClass: Bus Joiner; PortSize: 10; ArchiveName: GENERIC; VHDLIB_SIM: GENERIC_LIB; Published: 29-Jan-2004; Publisher: Altium Limited; LastRevisionNo: 1.00.00; HelpURL: CR0118 FPGA Generic Library Guide.pdf#page=304; ComponentLink1URL: CR0126 FPGA Bus Joiner Resource Usage.pdf#page=33; ComponentLink1Description: Core &Resource Usage
pins: I[9..0] (in), O0 (out), O1 (out), O2 (out), O3 (out), O4 (out), O5 (out), O6 (out), O7 (out), O8 (out), O9 (out)

## J10S_10B
designator U?
10 Single pin inputs to single 10-Bit output bus; FunctionalClass: Bus Joiner; PortSize: 10; ArchiveName: GENERIC; VHDLIB_SIM: GENERIC_LIB; Published: 29-Jan-2004; Publisher: Altium Limited; LastRevisionNo: 1.00.00; HelpURL: CR0118 FPGA Generic Library Guide.pdf#page=306; ComponentLink1URL: CR0126 FPGA Bus Joiner Resource Usage.pdf#page=34; ComponentLink1Description: Core &Resource Usage
pins: I0 (in), I1 (in), I2 (in), I3 (in), I4 (in), I5 (in), I6 (in), I7 (in), I8 (in), I9 (in), O[9..0] (out)

## J10S_10BX
designator U?
10 Single pin IO to single 10-Bit IO bus; FunctionalClass: Bus Joiner; PortSize: 10; ArchiveName: GENERIC; VHDLIB_SIM: GENERIC_LIB; Published: 29-Jan-2004; Publisher: Altium Limited; LastRevisionNo: 1.00.00; HelpURL: CR0118 FPGA Generic Library Guide.pdf#page=308; ComponentLink1Description: Core &Resource Usage; ComponentLink1URL: CR0126 FPGA Bus Joiner Resource Usage.pdf#page=35
pins: IO[9..0] (io), IO_A (io), IO_B (io), IO_C (io), IO_D (io), IO_E (io), IO_F (io), IO_G (io), IO_H (io), IO_I (io), IO_J (io)

## J12B_12S
designator U?
12-Bit input bus to 12 single pin outputs; FunctionalClass: Bus Joiner; PortSize: 12; ArchiveName: GENERIC; VHDLIB_SIM: GENERIC_LIB; Published: 29-Jan-2004; Publisher: Altium Limited; LastRevisionNo: 1.00.00; HelpURL: CR0118 FPGA Generic Library Guide.pdf#page=304; ComponentLink1URL: CR0126 FPGA Bus Joiner Resource Usage.pdf#page=36; ComponentLink1Description: Core &Resource Usage
pins: I[11..0] (in), O0 (out), O1 (out), O2 (out), O3 (out), O4 (out), O5 (out), O6 (out), O7 (out), O8 (out), O9 (out), O10 (out), O11 (out)

## J12S_12B
designator U?
12 Single pin inputs to single 12-Bit output bus; FunctionalClass: Bus Joiner; PortSize: 12; ArchiveName: GENERIC; VHDLIB_SIM: GENERIC_LIB; Published: 29-Jan-2004; Publisher: Altium Limited; LastRevisionNo: 1.00.00; HelpURL: CR0118 FPGA Generic Library Guide.pdf#page=306; ComponentLink1URL: CR0126 FPGA Bus Joiner Resource Usage.pdf#page=37; ComponentLink1Description: Core &Resource Usage
pins: I0 (in), I1 (in), I2 (in), I3 (in), I4 (in), I5 (in), I6 (in), I7 (in), I8 (in), I9 (in), I10 (in), I11 (in), O[11..0] (out)

## J12S_12BX
designator U?
12 single-Bit IO to single 12-Bit IO bus; FunctionalClass: Bus Joiner; PortSize: 12; ArchiveName: GENERIC; VHDLIB_SIM: GENERIC_LIB; Published: 29-Jan-2004; Publisher: Altium Limited; LastRevisionNo: 1.00.00; HelpURL: CR0118 FPGA Generic Library Guide.pdf#page=308; ComponentLink1Description: Core &Resource Usage; ComponentLink1URL: CR0126 FPGA Bus Joiner Resource Usage.pdf#page=38
pins: IO[11..0] (io), IO_A (io), IO_B (io), IO_C (io), IO_D (io), IO_E (io), IO_F (io), IO_G (io), IO_H (io), IO_I (io), IO_J (io), IO_K (io), IO_L (io)

## J16B2_32B
designator U?
2 x 16-Bit input bus to 1 x 32-bit output bus; FunctionalClass: Bus Joiner; PortSize: 16; ArchiveName: GENERIC; VHDLIB_SIM: GENERIC_LIB; Published: 29-Jan-2004; LatestRevisionDate: 31-May-2004; LatestRevisionNote: Output Pin (O) location changed.; Publisher: Altium Limited; LastRevisionNo: 1.00.00; HelpURL: CR0118 FPGA Generic Library Guide.pdf#page=302; ComponentLink1URL: CR0126 FPGA Bus Joiner Resource Usage.pdf#page=39; ComponentLink1Description: Core &Resource Usage
pins: IA[15..0] (in), IB[15..0] (in), O[31..0] (out)

## J16B_4B4
designator U?
1 x 16-bit input bus to 4 x 4-Bit output bus; FunctionalClass: Bus Joiner; PortSize: 16; ArchiveName: GENERIC; VHDLIB_SIM: GENERIC_LIB; Published: 29-Jan-2004; Publisher: Altium Limited; LastRevisionNo: 1.00.00; HelpURL: CR0118 FPGA Generic Library Guide.pdf#page=298; ComponentLink1URL: CR0126 FPGA Bus Joiner Resource Usage.pdf#page=40; ComponentLink1Description: Core &Resource Usage
pins: I[15..0] (in), OA[3..0] (out), OB[3..0] (out), OC[3..0] (out), OD[3..0] (out)

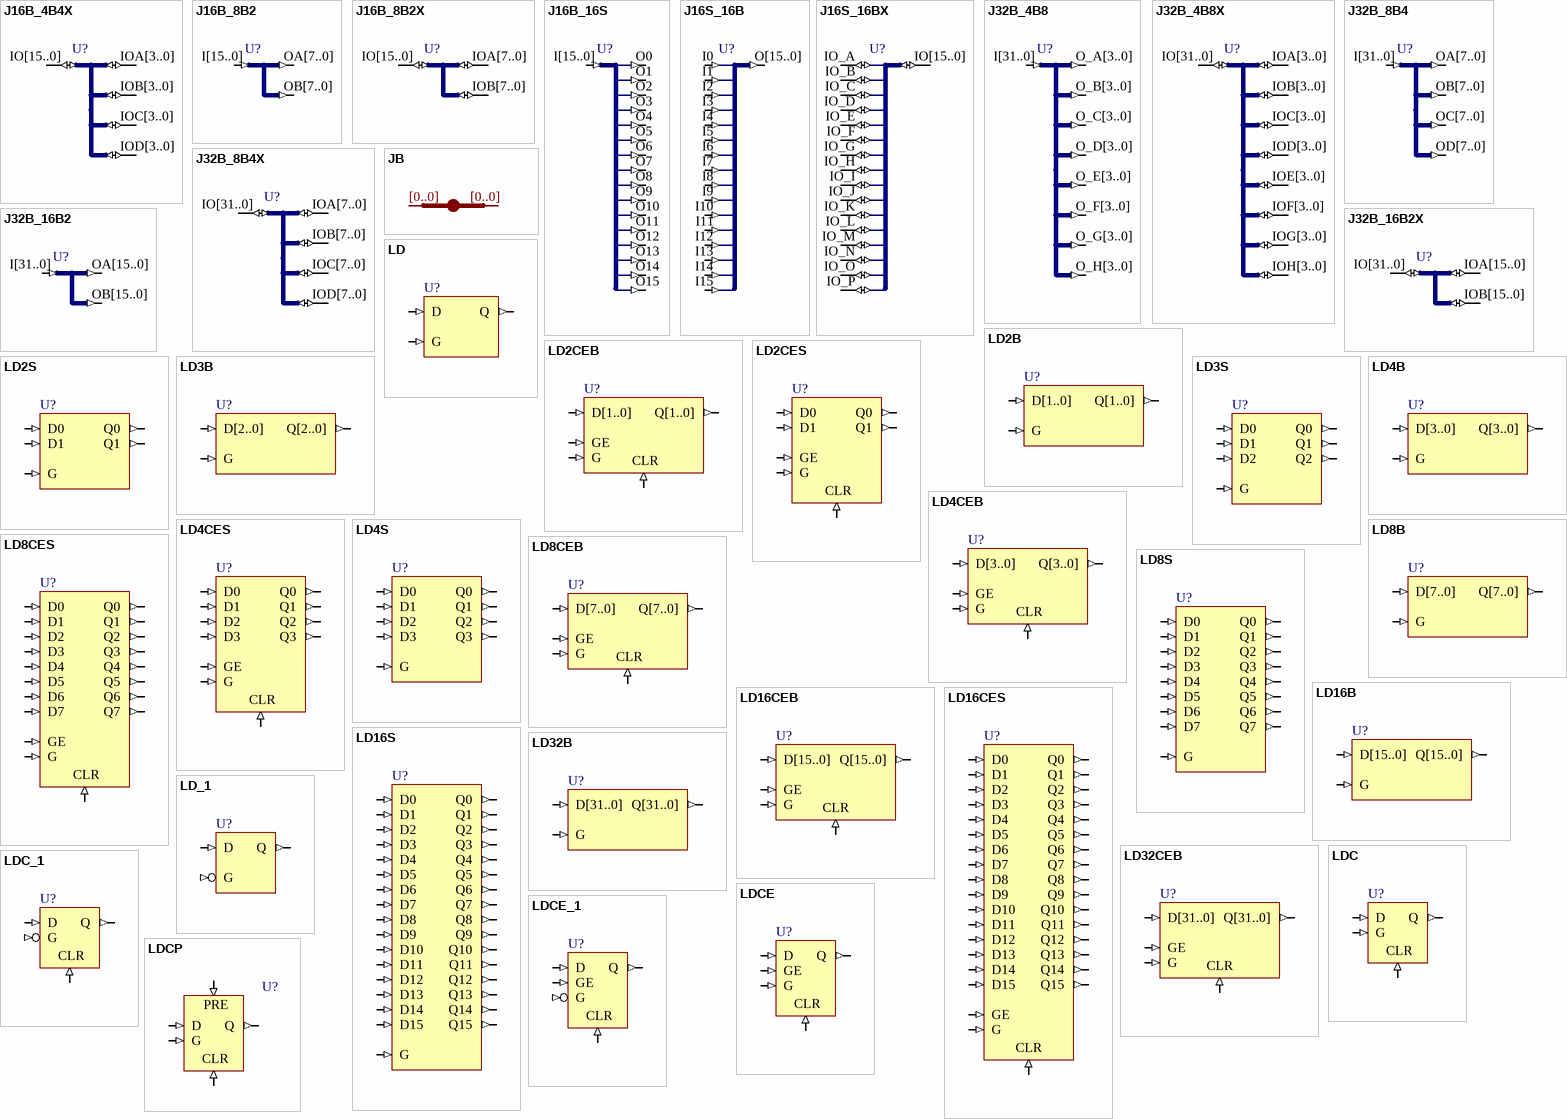
[diagram p19: symbols J16B_4B4X to LDCP]

## J16B_4B4X
designator U?
1 x 16-bit IO bus to 4 x 4-Bit IO bus; FunctionalClass: Bus Joiner; PortSize: 16; ArchiveName: GENERIC; VHDLIB_SIM: GENERIC_LIB; Published: 29-Jan-2004; Publisher: Altium Limited; LastRevisionNo: 1.00.00; HelpURL: CR0118 FPGA Generic Library Guide.pdf#page=300; ComponentLink1URL: CR0126 FPGA Bus Joiner Resource Usage.pdf#page=41; ComponentLink1Description: Core &Resource Usage
pins: IO[15..0] (io), IOA[3..0] (io), IOB[3..0] (io), IOC[3..0] (io), IOD[3..0] (io)

## J16B_8B2
designator U?
1 x 16-bit input bus to 2 x 8-Bit output bus; FunctionalClass: Bus Joiner; PortSize: 16; ArchiveName: GENERIC; VHDLIB_SIM: GENERIC_LIB; Published: 29-Jan-2004; Publisher: Altium Limited; LastRevisionNo: 1.00.00; HelpURL: CR0118 FPGA Generic Library Guide.pdf#page=298; ComponentLink1URL: CR0126 FPGA Bus Joiner Resource Usage.pdf#page=42; ComponentLink1Description: Core &Resource Usage
pins: I[15..0] (in), OA[7..0] (out), OB[7..0] (out)

## J16B_8B2X
designator U?
1 x 16-bit IO bus to 2 x 8-Bit IO bus; FunctionalClass: Bus Joiner; PortSize: 16; ArchiveName: GENERIC; VHDLIB_SIM: GENERIC_LIB; Published: 29-Jan-2004; Publisher: Altium Limited; LastRevisionNo: 1.00.00; HelpURL: CR0118 FPGA Generic Library Guide.pdf#page=300; ComponentLink1URL: CR0126 FPGA Bus Joiner Resource Usage.pdf#page=43; ComponentLink1Description: Core &Resource Usage
pins: IO[15..0] (io), IOA[7..0] (io), IOB[7..0] (io)

## J16B_16S
designator U?
Single 16-Bit input bus to 16 single pin outputs; FunctionalClass: Bus Joiner; PortSize: 16; ArchiveName: GENERIC; VHDLIB_SIM: GENERIC_LIB; Published: 29-Jan-2004; Publisher: Altium Limited; LastRevisionNo: 1.00.00; HelpURL: CR0118 FPGA Generic Library Guide.pdf#page=304; ComponentLink1URL: CR0126 FPGA Bus Joiner Resource Usage.pdf#page=44; ComponentLink1Description: Core &Resource Usage
pins: I[15..0] (in), O0 (out), O1 (out), O2 (out), O3 (out), O4 (out), O5 (out), O6 (out), O7 (out), O8 (out), O9 (out), O10 (out), O11 (out), O12 (out), O13 (out), O14 (out), O15 (out)

## J16S_16B
designator U?
16 Single pin inputs to single 16-Bit output bus; FunctionalClass: Bus Joiner; PortSize: 16; ArchiveName: GENERIC; VHDLIB_SIM: GENERIC_LIB; Published: 29-Jan-2004; Publisher: Altium Limited; LastRevisionNo: 1.00.00; HelpURL: CR0118 FPGA Generic Library Guide.pdf#page=306; ComponentLink1URL: CR0126 FPGA Bus Joiner Resource Usage.pdf#page=45; ComponentLink1Description: Core &Resource Usage
pins: I0 (in), I1 (in), I2 (in), I3 (in), I4 (in), I5 (in), I6 (in), I7 (in), I8 (in), I9 (in), I10 (in), I11 (in), I12 (in), I13 (in), I14 (in), I15 (in), O[15..0] (out)

## J16S_16BX
designator U?
16 Single pin IO to single 16-Bit IO bus; FunctionalClass: Bus Joiner; PortSize: 16; ArchiveName: GENERIC; VHDLIB_SIM: GENERIC_LIB; Published: 29-Jan-2004; Publisher: Altium Limited; LastRevisionNo: 1.00.00; HelpURL: CR0118 FPGA Generic Library Guide.pdf#page=308; ComponentLink1Description: Core &Resource Usage; ComponentLink1URL: CR0126 FPGA Bus Joiner Resource Usage.pdf#page=46
pins: IO[15..0] (io), IO_A (io), IO_B (io), IO_C (io), IO_D (io), IO_E (io), IO_F (io), IO_G (io), IO_H (io), IO_I (io), IO_J (io), IO_K (io), IO_L (io), IO_M (io), IO_N (io), IO_O (io), IO_P (io)

## J32B_4B8
designator U?
1 x 32-Bit input bus to 8 x 4-Bit output bus; FunctionalClass: Bus Joiner; PortSize: 32; ArchiveName: GENERIC; VHDLIB_SIM: GENERIC_LIB; Published: 29-Jan-2004; Publisher: Altium Limited; LastRevisionNo: 1.00.00; HelpURL: CR0118 FPGA Generic Library Guide.pdf#page=298; ComponentLink1URL: CR0126 FPGA Bus Joiner Resource Usage.pdf#page=47; ComponentLink1Description: Core &Resource Usage
pins: I[31..0] (in), O_A[3..0] (out), O_B[3..0] (out), O_C[3..0] (out), O_D[3..0] (out), O_E[3..0] (out), O_F[3..0] (out), O_G[3..0] (out), O_H[3..0] (out)

## J32B_4B8X
designator U?
1 x 32-Bit IO bus to 8 x 4-Bit IO bus; FunctionalClass: Bus Joiner; PortSize: 32; ArchiveName: GENERIC; VHDLIB_SIM: GENERIC_LIB; Published: 29-Jan-2004; Publisher: Altium Limited; LastRevisionNo: 1.00.00; HelpURL: CR0118 FPGA Generic Library Guide.pdf#page=300; ComponentLink1URL: CR0126 FPGA Bus Joiner Resource Usage.pdf#page=48; ComponentLink1Description: Core &Resource Usage
pins: IO[31..0] (io), IOA[3..0] (io), IOB[3..0] (io), IOC[3..0] (io), IOD[3..0] (io), IOE[3..0] (io), IOF[3..0] (io), IOG[3..0] (io), IOH[3..0] (io)

## J32B_8B4
designator U?
1 x 32-Bit input bus to 4 x 8-Bit output bus; FunctionalClass: Bus Joiner; PortSize: 32; ArchiveName: GENERIC; VHDLIB_SIM: GENERIC_LIB; Published: 29-Jan-2004; Publisher: Altium Limited; LastRevisionNo: 1.00.00; HelpURL: CR0118 FPGA Generic Library Guide.pdf#page=298; ComponentLink1URL: CR0126 FPGA Bus Joiner Resource Usage.pdf#page=49; ComponentLink1Description: Core &Resource Usage
pins: I[31..0] (in), OA[7..0] (out), OB[7..0] (out), OC[7..0] (out), OD[7..0] (out)

## J32B_8B4X
designator U?
1 x 32-Bit IO bus to 4 x 8-Bit IO bus; FunctionalClass: Bus Joiner; PortSize: 32; ArchiveName: GENERIC; VHDLIB_SIM: GENERIC_LIB; Published: 29-Jan-2004; Publisher: Altium Limited; LastRevisionNo: 1.00.00; HelpURL: CR0118 FPGA Generic Library Guide.pdf#page=300; ComponentLink1URL: CR0126 FPGA Bus Joiner Resource Usage.pdf#page=50; ComponentLink1Description: Core &Resource Usage
pins: IO[31..0] (io), IOA[7..0] (io), IOB[7..0] (io), IOC[7..0] (io), IOD[7..0] (io)

## J32B_16B2
designator U?
1 x 32-bit input bus to 2 x 16-Bit output bus; FunctionalClass: Bus Joiner; PortSize: 32; ArchiveName: GENERIC; VHDLIB_SIM: GENERIC_LIB; Published: 29-Jan-2004; Publisher: Altium Limited; LastRevisionNo: 1.00.00; HelpURL: CR0118 FPGA Generic Library Guide.pdf#page=298; ComponentLink1URL: CR0126 FPGA Bus Joiner Resource Usage.pdf#page=51; ComponentLink1Description: Core &Resource Usage
pins: I[31..0] (in), OA[15..0] (out), OB[15..0] (out)

## J32B_16B2X
designator U?
1 x 32-bit IO bus to 2 x 16-Bit IO bus; FunctionalClass: Bus Joiner; PortSize: 32; ArchiveName: GENERIC; VHDLIB_SIM: GENERIC_LIB; Published: 29-Jan-2004; Publisher: Altium Limited; LastRevisionNo: 1.00.00; HelpURL: CR0118 FPGA Generic Library Guide.pdf#page=300; ComponentLink1URL: CR0126 FPGA Bus Joiner Resource Usage.pdf#page=52; ComponentLink1Description: Core &Resource Usage
pins: IO[31..0] (io), IOA[15..0] (io), IOB[15..0] (io)

## JB
designator JB_AUTO?  IndexA: [0..0]
System BUS Joiner; Published: 29-Jan-2004; Publisher: Altium Limited; LastRevisionNo: 1.00.00; HelpURL: CR0118 FPGA Generic Library Guide.pdf#page=297; FunctionalClass: Bus Joiner; IndexB: [0..0]
pins: A[0..0], B[0..0]